# Altium footprint library PcbLib_Cute.PcbLib: 26 footprints (part 2 of 2)
Each footprint in its own frame and in the unit in brackets; x right, y up, seen from the top. Pads: shape width x height; smd on the part's side, far side on the other; paste and mask are expansions set on the pad; w line width, h text height; cw(c..) or ccw(c..) is an arc to the next point about the centre after c.
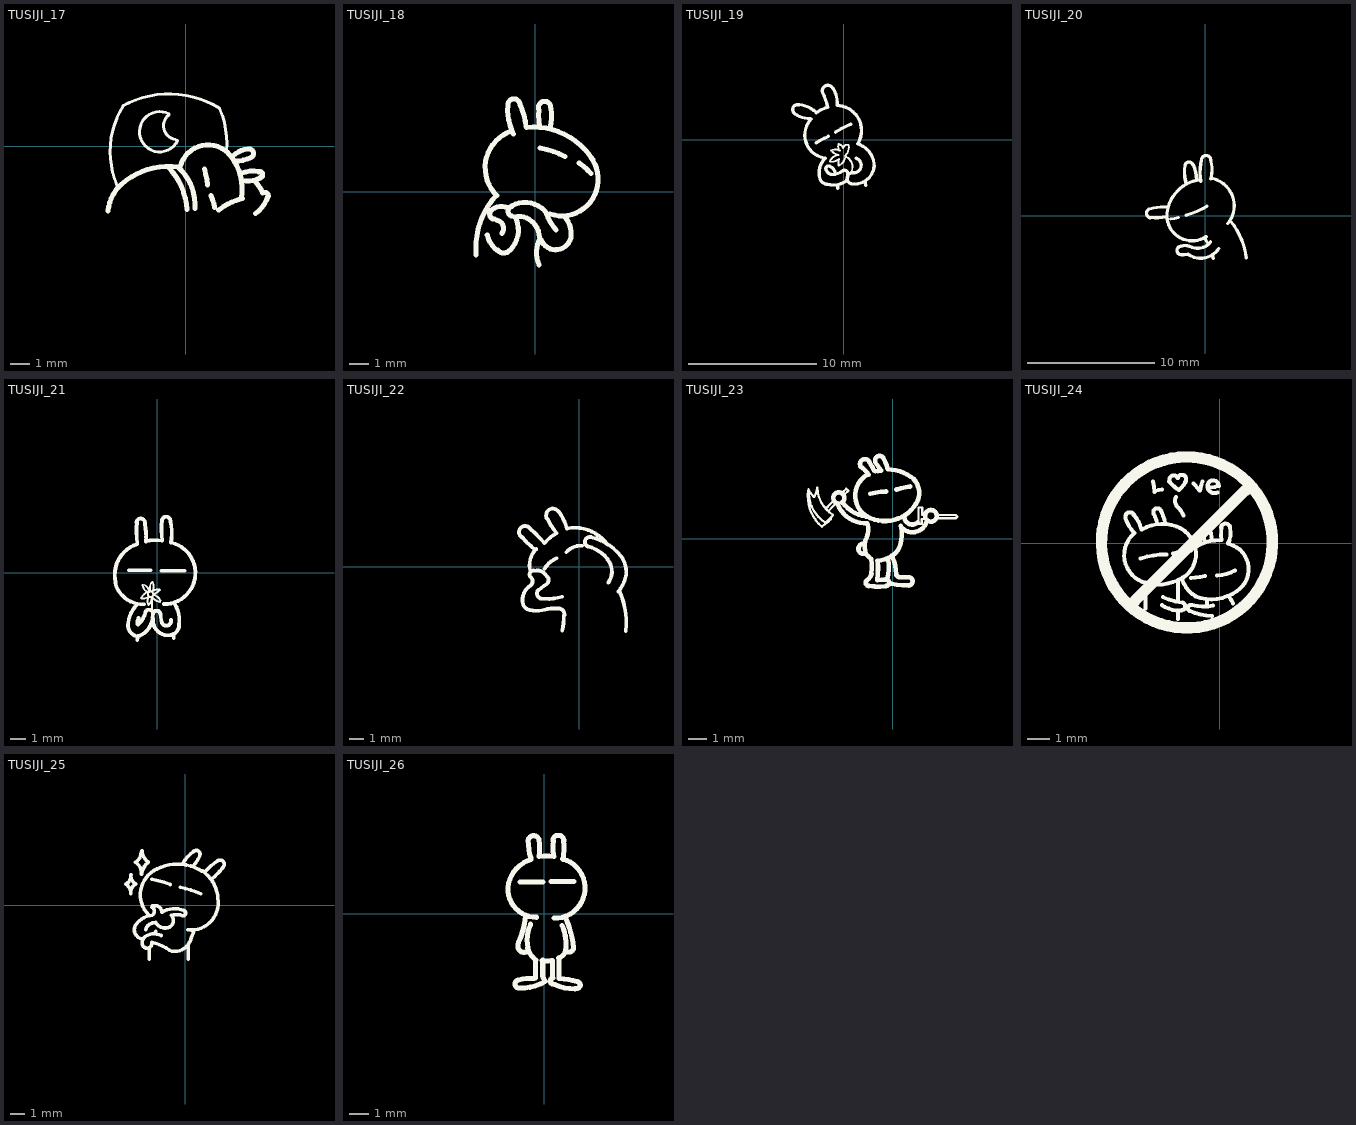
[diagram p1: the footprints below, top view; thin cyan lines are the x and y axes]

## TUSIJI_17 [mm] "TSJ"
Top Overlay:
  lines w0.152: -3.454,-1.963 cw(c0.483,-0.254) -3.15,2.032 ; -3.158,2.048 cw(c-0.838,-2.21) 1.679,1.934 ; -0.838,1.6 ccw(c-0.432,1.041) -0.518,0.356 ; -0.838,1.626 ccw(c-1.321,0.737) -0.411,0.295 ; 1.701,1.887 cw(c-2.235,0.178) 2.038,-0.22
  lines w0.254: -3.905,-3.247 cw(c-1.93,-3.378) -3.251,-1.905 ; -3.248,-1.909 cw(c-0.889,-4.547) -0.406,-1.041 ; -0.849,-1.08 cw(c-3.251,-3.353) 0.051,-3.175 ; -0.404,-1.032 cw(c-2.083,-2.946) 0.457,-3.124 ; -0.287,-1.02 cw(c1.118,-1.372) 2.261,-0.483 ; 0.927,-1.129 cw(c-3.632,-2.489) 1.092,-1.93 ; 1.265,-2.466 cw(c-1.168,-3.531) 1.448,-3.073 ; 1.654,-3.197 cw(c3.581,-5.639) 2.845,-2.616 ; 2.259,-0.484 cw(c0.076,-2.159) 2.794,-2.591 ; 2.361,-0.482 cw(c3.251,-1.397) 3.124,-0.127 ; 2.464,-0.737 ccw(c2.489,1.118) 3.278,-0.561 ; 2.801,-1.339 cw(c3.353,-2.845) 3.658,-1.27 ; 2.819,-1.702 ccw(c3.124,-0.381) 3.741,-1.588 ; 3.126,-0.134 cw(c3.175,-0.356) 3.277,-0.559 ; 3.501,-3.381 ccw(c2.438,-1.956) 4.13,-2.503 ; 3.522,-1.803 cw(c1.829,-3.251) 3.861,-2.337 ; 3.66,-1.276 cw(c3.708,-1.422) 3.734,-1.575 ; 3.937,-2.313 cw(c3.962,-2.489) 4.14,-2.489

## TUSIJI_18 [mm] "TSJ"
Top Overlay:
  lines w0.254: -2.971,-3.187 cw(c0.914,-2.819) -1.981,-0.203 ; -2.413,-2.184 ccw(c-1.067,-1.854) -1.907,-2.957 ; -2.165,-0.88 cw(c-1.676,-1.626) -1.372,-0.787 ; -2.159,-0.889 ccw(c-2.032,-1.118) -2.058,-1.378 ; -1.956,-1.422 cw(c-2.004,-1.836) -1.674,-2.09 ; -1.931,-0.18 cw(c-0.559,1.219) -1.194,3.073 ; -1.88,-2.946 ccw(c-1.575,-2.692) -1.249,-2.918 ; -1.245,-2.921 ccw(c-2.261,-1.93) -0.941,-1.408 ; -1.173,-0.702 cw(c-0.508,-1.93) 0.61,-1.092 ; -1.168,-1.219 cw(c-1.107,-0.973) -1.162,-0.725 ; -1.093,2.921 cw(c1.473,4.166) -1.372,4.369 cw(c-1.067,4.394) -0.762,4.42 ; -1.041,-1.27 cw(c-0.806,-2.341) -0.552,-1.274 ; -0.759,4.421 cw(c-4.674,2.718) -0.444,3.3 ; -0.432,-1.316 cw(c-0.889,-2.337) 0.229,-2.311 ; -0.431,3.266 cw(c-0.102,-0.305) 2.921,1.626 ; 0.187,4.178 cw(c0.483,4.267) 0.792,4.267 ; 0.203,-2.464 ccw(c1.524,-3.073) 0.207,-3.692 ; 0.203,4.14 ccw(c3.2,3.835) 0.233,3.315 ; 0.254,2.212 cw(c-0.305,-1.499) 1.524,1.778 ; 0.305,-2.413 ccw(c1.041,-2.134) 1.827,-2.186 ; 0.584,-1.092 ccw(c2.591,-0.483) 1.056,-1.912 ; 0.749,3.235 ccw(c-1.436,3.87) 0.813,4.216 ; 0.762,-1.118 ccw(c1.346,0.635) 2.92,1.603 ; 1.551,-1.313 cw(c0.483,-2.134) 1.829,-2.184 ; 2.21,1.471 cw(c0.178,-1.473) 2.819,0.94

## TUSIJI_19 [mm] "TSJ"
Top Overlay:
  lines w0.152: -1.092,-1.663 cw(c-0.305,-2.032) -0.406,-1.168 ; -1.069,-1.696 ccw(c-0.965,-0.762) -0.366,-1.486 ; -1.007,-0.811 cw(c-0.686,-1.6) -0.305,-0.838 ; -0.965,-0.838 ccw(c-0.254,-0.279) -0.411,-1.17 ; -0.42,-2.009 cw(c1.016,-1.93) -0.356,-1.499 ; -0.406,-0.33 ccw(c0.229,-0.533) -0.373,-0.82 ; -0.381,-2.007 ccw(c-0.813,-1.168) 0.109,-1.368 ; -0.378,-0.306 cw(c-0.559,-0.787) -0.076,-0.61 ; -0.049,-0.639 cw(c0.254,-0.686) 0.381,-0.406 ; 0.076,-1.27 ccw(c-0.559,-0.559) 0.384,-0.414 ; 0.208,-1.335 cw(c-0.203,-2.108) 0.559,-2.54
  lines w0.254: -3.81,2.032 ccw(c-2.667,3.581) -2.616,1.657 ; -3.794,2.034 cw(c-3.607,2.362) -3.48,2.718 ; -3.478,2.741 cw(c-3.683,0.559) -2.159,2.134 ; -2.54,1.626 ccw(c-1.219,0.381) -1.461,-1.418 ; -2.167,-0.233 cw(c1.905,-6.629) -1.219,0.279 ; -2.143,2.114 cw(c-0.889,0.533) -1.27,2.515 ; -1.904,-2.798 cw(c-0.305,-2.565) -1.448,-1.422 ; -1.905,-2.794 ccw(c-1.194,-2.769) -1.272,-3.476 ; -1.666,3.714 cw(c-6.274,1.422) -1.245,2.515 ; -1.666,3.716 cw(c-1.245,3.81) -0.864,4.013 ; -1.349,-2.368 cw(c-1.194,-2.235) -1.092,-2.057 ; -1.346,-2.388 ccw(c-0.889,-2.21) -0.863,-2.7 ; -1.27,-3.454 ccw(c-0.813,-1.778) 0.151,-3.224 ; -1.093,-2.061 cw(c-1.321,-2.667) -0.686,-2.54 ; -0.864,-2.692 ccw(c-0.94,-1.295) -0.109,-2.421 ; -0.837,4.029 cw(c-2.718,2.896) -0.533,2.667 ; -0.656,0.598 cw(c3.454,-5.944) 0.559,1.219 ; -0.534,2.668 cw(c-0.559,0.737) 1.143,-0.178 ; -0.481,-3.531 ccw(c5.715,-3.353) -0.468,-3.782 ; -0.112,-2.426 cw(c0.051,-2.616) 0.279,-2.718 ; 0.152,-3.226 ccw(c-0.508,-2.743) 0.31,-2.769 ; 0.711,-3.429 ccw(c0.838,-1.905) 2.363,-2.028 ; 0.715,-3.435 cw(c0.686,-2.997) 0.762,-2.565 ccw(c0.762,-1.981) 0.962,-1.432 ; 1.066,-0.308 cw(c0.533,-2.057) 2.362,-2.057 ; 1.672,-3.248 cw(c-4.14,-4.013) 1.702,-3.531

## TUSIJI_20 [mm] "TSJ"
Top Overlay:
  lines w0.254: -4.42,0.533 ccw(c-4.267,0.203) -4.322,-0.156 ; -4.389,0.54 cw(c-3.277,-3.251) -2.946,0.686 ; -4.318,-0.127 ccw(c-3.912,4.267) -3.075,-0.066 ; -3.028,0.178 cw(c-0.051,-0.127) -0.406,2.845 ; -3.023,0.178 ccw(c-1.041,0.025) 0.055,-1.632 ; -2.743,-0.254 ccw(c-3.835,6.731) -2.133,-0.131 ; -1.932,-2.381 cw(c-1.6,-3.48) -1.118,-2.438 ; -1.93,-2.388 ccw(c-1.905,-2.718) -1.875,-3.048 ; -1.88,-3.048 ccw(c-1.727,-1.448) -1.355,-3.012 ; -1.608,3.938 cw(c-1.295,3.912) -0.991,3.988 ; -1.6,3.937 ccw(c1.219,3.429) -1.511,2.563 ; -1.524,0.051 ccw(c-3.454,6.833) 0.106,0.747 ; -1.321,-3.048 ccw(c-0.381,-1.626) 1.045,-2.56 ; -1.067,-2.464 ccw(c-0.61,-1.295) 0.404,-2.035 ; -0.944,4.007 cw(c-3.861,2.819) -0.711,2.819 ; -0.37,2.694 cw(c3.708,3.404) -0.305,4.42 ; -0.315,4.421 cw(c0.051,4.369) 0.421,4.369 ; -0.025,-1.834 cw(c-1.778,-3.226) 0.203,-2.184 ; 0.406,2.896 ccw(c-2.032,3.632) 0.433,4.274 ; 0.472,2.949 cw(c0.051,0.787) 1.753,-0.61 ; 0.584,-3.124 cw(c-2.007,-3.531) 0.61,-3.353 ; 2.025,-0.474 cw(c-2.438,-3.988) 3.2,-3.302

## TUSIJI_21 [mm] "TUSIJI"
Top Overlay:
  lines w0.127: -1.086,-1.664 cw(c-0.254,-2.108) -0.686,-1.27 cw(c-0.381,-0.737) -0.991,-0.813 ; -1.067,-1.702 ccw(c-0.991,-0.991) -0.582,-1.578 ; -0.913,-0.783 cw(c-1.092,-1.295) -0.559,-1.194 ; -0.61,-2.159 ccw(c-1.143,-1.6) -0.371,-1.625 ; -0.607,-2.158 cw(c0.025,-1.905) -0.584,-1.6 ; -0.584,-1.295 ccw(c-0.457,-1.422) -0.569,-1.282 ; -0.473,-1.181 cw(c0.051,-0.991) -0.33,-0.584 ; -0.356,-2.591 -0.356,-1.575 ccw(c0.229,-1.27) 0.169,-1.926 ; -0.356,-1.245 ccw(c-0.889,-0.889) -0.316,-0.602 ; -0.331,-1.244 cw(c0.102,-1.778) 0.152,-1.092 ; -0.279,-1.422 ccw(c-0.61,-0.432) 0.165,-1.132 ; -0.233,-1.471 cw(c-0.406,-2.108) 0.203,-1.854
  lines w0.254: -2.819,-0.66 ccw(c-0.991,-0.203) -0.886,-2.085 ; -2.79,-0.653 cw(c-0.686,-0.127) -1.372,1.93 ; -1.905,0.178 -0.457,0.178 ; -1.407,-4.227 cw(c-1.194,-3.48) -1.956,-3.327 cw(c0.302,-3.661) -1.374,-2.112 ; -1.4,3.381 cw(c-1.118,3.353) -0.838,3.302 ; -1.372,3.378 ccw(c3.2,2.794) -1.342,2.012 ; -1.354,-3.405 cw(c0.406,-3.556) -1.27,-2.997 ; -1.345,-4.473 cw(c1.067,-4.572) -1.321,-4.216 ; -1.321,-4.242 ccw(c-1.753,-2.87) -0.317,-2.795 ; -1.295,-3.454 ccw(c-2.413,-2.21) -0.807,-2.679 ; -0.852,3.299 cw(c-5.004,2.388) -0.762,2.108 ; -0.813,-2.642 cw(c-0.559,-2.718) -0.305,-2.794 ; -0.776,2.118 cw(c-0.127,-0.711) 0.305,2.159 ; -0.293,-2.708 cw(c-0.051,-2.769) 0.178,-2.667 ; -0.286,-3.043 ccw(c0.704,-3.17) 0.787,-4.166 ccw(c0.762,-3.48) 1.448,-3.48 ; 0.201,-2.743 ccw(c2.591,-2.642) 0.306,-3.352 ; 0.254,0.152 1.829,0.152 ; 0.303,3.52 cw(c0.584,3.48) 0.864,3.429 ; 0.305,3.531 ccw(c5.537,2.921) 0.324,2.162 ; 0.356,-3.429 ccw(c0.589,-3.196) 0.911,-3.121 ; 0.432,-2.083 ccw(c0.457,0) 0.944,2.025 ; 0.869,3.43 cw(c-2.616,2.616) 0.914,2.032 ; 1.064,-4.082 cw(c-1.194,-4.445) 1.092,-4.369 ; 1.157,-2.064 cw(c-0.686,-3.175) 1.448,-3.454

## TUSIJI_22 [mm] "TSJ"
Top Overlay:
  lines w0.254: -3.901,2.007 cw(c-3.683,2.362) -3.353,2.616 ; -3.886,2.032 ccw(c0.102,5.258) -3.021,1.188 ; -3.843,-2.491 cw(c-2.667,-2.261) -3.302,-1.245 ; -3.835,-2.489 ccw(c-3.277,-2.362) -3.379,-2.926 ; -3.378,-2.921 ccw(c-2.896,-0.66) -2.311,-2.897 ; -3.361,2.606 cw(c-7.899,-2.87) -2.388,1.626 ; -3.311,-0.308 cw(c-1.93,0.152) -2.921,1.219 ; -3.277,-1.219 ccw(c-3.556,-0.965) -3.23,-0.775 ; -3.274,-0.722 cw(c-3.124,-0.508) -3.073,-0.252 ; -3.003,-0.25 cw(c-2.87,-0.965) -2.21,-0.66 ; -2.769,-1.549 ccw(c-2.54,-1.803) -2.63,-2.133 ; -2.763,-1.558 cw(c-0.635,-3.886) -2.235,-1.168 ; -2.642,-2.134 ccw(c-2.159,1.118) -1.18,-2.02 ; -2.38,-2.904 cw(c-1.676,-5.588) -1.499,-2.819 ; -2.371,-0.122 cw(c-0.889,-1.016) -1.549,0.584 ; -2.318,1.661 cw(c-0.432,0.127) -1.549,2.286 ; -2.21,-1.143 ccw(c-2.413,-0.889) -2.197,-0.646 ; -2.189,3.258 cw(c-1.803,3.505) -1.422,3.759 ; -2.159,3.251 ccw(c1.397,4.902) -1.598,2.372 ; -1.494,-2.822 cw(c-1.422,-3.226) -1.016,-3.277 ; -1.399,3.738 cw(c-3.531,2.032) -0.864,2.616 ; -1.168,-4.318 ccw(c-4.623,-3.429) -1.059,-3.276 ; -0.896,1 cw(c0.102,0.127) 0.179,1.45 ; -0.838,2.617 cw(c-0.33,-0.127) 1.92,1.523 ; 0.571,1.393 cw(c0.711,1.702) 0.787,2.032 ; 0.581,1.412 cw(c-0.254,-1.346) 1.93,0.533 ; 0.813,2.032 cw(c-0.203,-1.753) 2.811,0.751 ; 1.909,0.516 cw(c0.94,-0.305) 1.956,-1.067 ; 2.643,-1.671 ccw(c0.738,-0.096) 3.175,-0.508 ; 2.73,-1.671 cw(c-2.007,-3.785) 3.15,-4.343 ; 2.816,0.746 cw(c1.27,-0.381) 3.175,-0.559

## TUSIJI_23 [mm] "TSJ"
Top Overlay:
  lines w0.127: -4.699,2.667 ccw(c-2.489,2.362) -3.935,0.663 ; -4.674,2.718 ccw(c-2.616,2.616) -3.753,0.898 ; -4.674,2.743 ccw(c-3.353,3.353) -4.369,2.312 ; -4.343,2.311 ccw(c-6.172,3.073) -4.207,2.818 ; -4.191,2.819 ccw(c-2.337,2.896) -3.343,1.336 ; -3.937,0.686 ccw(c-5.334,2.946) -3.442,1.08 ; -3.759,0.889 ccw(c-4.928,2.591) -3.321,1.295 ; -3.708,1.676 -3.251,2.159 ; -3.556,1.549 -3.124,2.007 ; -2.794,2.565 -2.591,2.769 -2.489,2.667 -2.464,2.667 -2.667,2.464 ; 1.727,1.321 1.626,1.321 1.626,1.727 1.422,1.727 1.422,0.838 1.6,0.838 1.6,1.092 1.854,1.092 ; 2.413,1.321 3.48,1.321 3.581,1.219 3.505,1.143 2.438,1.143
  lines w0.254: -3.058,1.957 cw(c-2.997,2.261) -2.819,2.007 ; -3.048,1.88 ccw(c-1.524,2.515) -1.416,0.867 ; -2.769,1.981 ccw(c-1.194,3.2) -1.5,1.233 ; -1.804,4.004 cw(c-2.54,2.794) -1.346,3.556 ; -1.802,4.035 cw(c-1.549,4.14) -1.295,4.242 ; -1.59,-0.841 cw(c-1.626,-0.559) -1.575,-0.279 ; -1.524,-0.127 ccw(c-0.254,-0.432) -1.493,-0.845 ; -1.524,-0.076 ccw(c-2.489,0.508) -1.398,0.794 ; -1.473,-2.337 ccw(c-1.321,-2.438) -1.347,-2.62 ; -1.473,-0.838 ccw(c-0.813,-0.457) -1.201,-1.113 ; -1.448,-2.311 ccw(c-1.778,-1.803) -1.186,-1.932 ; -1.448,1.245 ccw(c-0.457,2.972) 0.309,1.134 ; -1.419,1.231 cw(c-0.762,2.388) -1.397,3.556 ; -1.321,-2.616 ccw(c-0.813,0.787) -0.38,-2.627 ; -1.313,4.231 cw(c-2.515,3.226) -1.041,3.759 ; -1.258,2.492 cw(c-0.229,-1.626) -0.381,2.616 ; -1.205,-1.126 cw(c-4.47,-1.575) -1.194,-1.93 ; -0.986,3.736 cw(c-0.737,2.464) -0.686,3.759 ; -0.978,4.231 cw(c-3.632,2.007) -0.66,3.785 ; -0.974,4.264 cw(c-0.737,4.343) -0.508,4.445 ; -0.864,-2.311 ccw(c-5.842,-1.676) -0.842,-1.243 ; -0.864,-1.219 ccw(c-0.94,0.381) -0.057,-0.956 ; -0.842,-2.297 cw(c-0.508,-3.734) -0.432,-2.261 ; -0.514,4.442 cw(c-2.565,3.277) -0.279,3.861 ; -0.43,-2.267 cw(c-0.381,-2.438) -0.381,-2.616 ; -0.305,-2.235 ccw(c-2.642,-1.626) -0.269,-1.177 ; -0.28,3.846 cw(c-0.305,1.626) 0.991,3.429 ; -0.076,-2.489 ccw(c0.711,0.889) 0.838,-2.577 ; -0.051,-0.94 ccw(c-0.533,-0.102) 0.399,-0.36 ; -0.021,-1.039 cw(c-1.803,-1.905) 0.178,-1.956 ccw(c0.406,-1.905) 0.406,-2.139 ; 0.2,2.727 cw(c1.499,-1.346) 0.965,2.896 ; 0.305,1.118 ccw(c-0.381,2.921) 1.286,1.95 ; 0.407,-2.135 cw(c0.635,-5.283) 0.838,-2.134 ; 0.406,-0.356 ccw(c-2.057,0.279) 0.447,0.726 ; 0.508,0.61 ccw(c1.092,1.168) 1.875,0.966 ; 0.635,1.194 ccw(c1.067,1.219) 1.373,0.913 ; 0.838,-2.591 ccw(c0.864,-2.362) 0.864,-2.132 ; 1.003,3.446 cw(c0.33,2.54) 1.295,1.956 ; 1.802,1.168 cw(c2.108,1.27) 1.88,1.041

## TUSIJI_24 [mm] "TSJ"
Top Overlay:
  lines w0.178: -4.216,1.118 ccw(c-2.464,1.702) -3.819,0.447 ; -4.205,1.096 cw(c-4.013,1.168) -3.835,1.27 ; -3.846,1.26 cw(c-4.877,0.305) -3.505,0.61 ; -3.835,0.432 ccw(c-2.972,-0.533) -3.268,-1.794 ; -3.538,-0.69 cw(c-2.413,-4.064) -2.388,-0.508 ; -3.465,0.61 cw(c-2.565,-0.889) -1.549,0.533 ; -3.327,-2.921 -3.327,-1.753 ; -3.277,-1.803 ccw(c-2.794,0.279) -1.672,-1.541 ; -2.975,2.742 cw(c-4.877,2.286) -2.921,2.286 ; -2.961,1.305 cw(c-2.794,1.372) -2.616,1.397 ; -2.952,1.317 cw(c-4.674,0.483) -2.794,0.838 ; -2.904,2.311 cw(c-2.184,0.051) -2.591,2.388 ; -2.601,1.379 cw(c-4.547,0.483) -2.438,0.864 ; -2.591,-2.769 ccw(c-1.829,-1.651) -1.752,-3.001 ; -2.54,-2.413 ccw(c-1.295,0.305) -1.679,-2.66 ; -2.261,2.743 ccw(c-0.838,3.912) -1.859,2.38 ; -2.241,2.758 cw(c-2.057,2.819) -1.88,2.896 ; -2.09,-0.459 cw(c-1.194,-3.48) -1.295,-0.33 ; -1.956,2.057 ccw(c-1.626,1.88) -1.841,1.572 ; -1.89,2.908 cw(c-1.702,2.845) -1.549,2.718 ; -1.88,-3.378 -1.88,-3.023 ; -1.88,-2.616 -1.88,-1.676 ; -1.829,1.549 cw(c-2.543,0.89) -1.629,1.22 ; -1.829,2.362 ccw(c-2.794,3.48) -1.535,2.709 ; -1.753,-2.997 ccw(c-1.727,-2.819) -1.67,-2.649 ; -1.676,-1.651 ccw(c-0.406,-1.219) -1.085,-2.376 ; -1.651,-1.549 ccw(c-2.337,-0.483) -1.56,0.52 ; -1.346,-3.023 ccw(c-0.356,-0.914) -0.356,-3.244 ; -1.333,-3.027 cw(c-1.295,-2.896) -1.245,-2.769 ccw(c-0.711,-0.483) -0.3,-2.794 ; -1.295,-1.549 ccw(c-1.372,1.27) -0.676,-1.463 ; -1.185,2.655 cw(c-2.134,1.575) -0.914,2.337 ; -1.094,-0.187 cw(c-0.051,-1.753) 0.025,0.127 ; -1.092,-2.388 ccw(c-0.406,-0.457) 0.765,-2.138 ; -0.885,2.333 cw(c1.194,2.057) -0.787,2.743 ; -0.799,0.451 cw(c-0.635,0.533) -0.483,0.635 ; -0.787,0.457 ccw(c0.279,0.61) -0.658,0.078 ; -0.584,-2.743 -0.584,-2.54 ; -0.533,2.413 ccw(c-0.229,2.565) -0.114,2.244 ; -0.532,2.426 cw(c-0.305,2.54) -0.051,2.54 ; -0.483,2.489 ccw(c-0.406,3.378) -0.109,2.537 ; -0.465,0.617 cw(c-1.854,0.051) -0.356,0.127 ; -0.127,-1.448 ccw(c-0.33,0.838) 0.675,-1.225 ; 0.055,0.7 cw(c0.254,0.66) 0.457,0.66 ; 0.075,0.134 cw(c1.93,0.406) 0.076,0.686 ; 0.356,-0.025 ccw(c-0.686,0.483) 0.459,0.661 ; 0.401,-2.387 cw(c-0.737,-3.277) 0.584,-2.692 ; 0.419,-0.05 cw(c0.127,-1.168) 0.762,-2.134
  lines w0.508: -3.785,-2.565 1.143,2.362 ; 2.336,-0.072 cw(c-1.473,0.025) 2.336,-0.023

## TUSIJI_25 [mm] "TSJ"
Top Overlay:
  lines w0.254: -4.242,1.499 ccw(c-4.521,2.083) -3.878,2.157 ; -4.218,1.507 cw(c-4.674,0.864) -3.886,0.813 ; -3.886,0.865 cw(c-3.048,0.838) -3.531,1.524 ; -3.861,2.159 ccw(c-3.226,2.083) -3.512,1.511 ; -3.556,3.048 ccw(c-3.988,3.785) -3.134,3.785 ; -3.546,3.064 cw(c-4.089,2.235) -3.099,2.21 ; -3.421,-1.257 cw(c-2.184,-2.362) -2.337,-0.711 ; -3.404,-1.27 ccw(c-2.972,-1.753) -3.028,-2.398 ; -3.11,2.221 cw(c-1.676,1.956) -2.642,3.048 ; -3.073,3.886 ccw(c-2.007,3.937) -2.643,3.08 ; -3.056,-2.828 cw(c-2.515,-2.692) -2.794,-2.21 ; -3.048,-2.819 ccw(c-2.718,-2.718) -2.372,-2.718 ; -2.819,-1.738 cw(c-2.159,-1.93) -2.108,-1.245 ; -2.798,-2.202 cw(c-2.21,-3.2) -1.702,-2.159 ; -2.601,-0.698 cw(c-1.143,0.737) -2.007,2.591 ; -2.565,-3.835 -2.565,-3.048 ; -2.389,-0.132 cw(c-2.515,-0.432) -2.311,-0.686 ; -2.385,-2.631 cw(c-3.327,-6.426) -1.118,-3.2 ; -2.36,1.841 cw(c-3.708,-5.359) -1.067,1.473 ; -2.343,-0.059 cw(c-2.159,-0.533) -1.651,-0.508 ; -2.235,-2.032 ccw(c-2.337,-1.778) -2.08,-1.871 ; -2.083,-1.219 ccw(c-1.473,-0.965) -1.398,-1.621 ; -1.999,2.576 cw(c-0.533,-0.33) 1.219,2.413 ; -1.658,-0.511 cw(c-0.762,-1.854) -0.102,-0.381 ; -1.397,-1.626 ccw(c-1.372,-1.092) -0.981,-0.728 ; -1.118,-3.226 ccw(c-0.737,-2.108) 0.431,-2.286 ; -0.954,-0.716 cw(c-0.61,-1.854) -0.203,-0.737 ; -0.36,1.276 cw(c-1.778,-5.842) 1.118,0.813 ; -0.203,-0.762 ccw(c-0.178,-0.559) -0.106,-0.367 ; -0.141,3.005 cw(c2.057,1.753) 0.584,3.81 ; 0.203,-1.753 ccw(c0.432,0.152) 2.318,0.504 ; 0.229,-3.835 0.229,-2.845 ; 0.432,-2.286 ccw(c-0.533,-1.651) 0.606,-1.841 ; 0.559,2.769 ccw(c-1.803,4.851) 1.053,3.525 ; 0.594,3.826 cw(c0.787,3.632) 1.041,3.531 ; 1.237,2.439 cw(c-0.229,0.33) 2.337,0.457 ; 1.454,2.408 cw(c4.597,-0.279) 2.286,3.15 ; 1.88,1.88 ccw(c-0.178,4.75) 2.663,2.651 ; 2.294,3.144 cw(c2.489,2.921) 2.642,2.667

## TUSIJI_26 [mm] "TSJ"
Top Overlay:
  lines w0.254: -1.803,1.524 ccw(c-0.406,1.245) -0.381,-0.18 ; -1.804,1.53 cw(c-0.178,1.143) -0.66,2.743 ; -1.317,-1.532 ccw(c-1.013,-1.634) -0.889,-1.93 ; -1.31,-1.474 ccw(c-5.019,0.278) -0.94,-0.152 ; -1.298,-3.343 cw(c-0.737,-5.283) -0.508,-3.277 ; -1.295,-3.353 ccw(c-1.27,-3.556) -1.236,-3.758 ; -1.245,-3.759 ccw(c-1.168,-1.448) 0.018,-3.433 ; -1.219,1.6 -0.076,1.6 ; -0.838,-1.727 ccw(c0.178,-1.473) -0.426,-2.329 ; -0.82,-1.729 cw(c0.94,-1.321) -0.686,-0.533 ; -0.813,3.708 ccw(c1.829,3.658) -0.672,2.807 ; -0.803,3.747 cw(c-0.533,3.658) -0.254,3.708 ; -0.432,-3.251 -0.432,-2.337 ; -0.274,3.725 cw(c-2.692,3.251) -0.254,2.896 ; -0.255,2.899 cw(c0.102,0.533) 0.483,2.896 ; -0.102,-2.362 ccw(c0.152,-1.346) 0.358,-2.373 ; -0.076,-3.15 -0.076,-2.337 ; -0.068,-3.195 cw(c-0.635,-3.556) 0.025,-3.429 ; 0.33,1.626 1.499,1.626 ; 0.406,-3.226 0.406,-2.362 ; 0.432,-3.556 cw(c0.457,-3.404) 0.432,-3.251 ; 0.432,3.683 cw(c0.711,3.683) 0.991,3.683 ; 0.457,3.683 ccw(c2.946,3.353) 0.466,2.961 ; 0.483,-0.229 ccw(c0.533,1.295) 0.933,2.767 ; 0.533,-3.581 ccw(c1.499,-1.499) 1.55,-3.794 ; 0.711,-2.235 ccw(c0.61,-1.778) 1.063,-1.897 ; 0.737,-3.277 0.737,-2.235 ; 0.787,-3.284 cw(c0.762,-6.071) 1.651,-3.429 cw(c1.622,-3.63) 1.825,-3.63 ; 0.907,-0.598 cw(c-1.245,-1.524) 1.067,-1.905 ; 0.94,2.743 ccw(c-1.575,3.302) 0.974,3.677 ; 1.092,-0.229 cw(c-3.431,-2.185) 1.471,-1.677 ; 1.168,-1.93 ccw(c1.245,-1.702) 1.484,-1.675 ; 1.549,-3.785 ccw(c1.6,-3.556) 1.825,-3.62